# Altium integrated library Analog Devices Data Converters Digital-to-Analog Converters.IntLib: 2231 symbols (part 94 of 181)
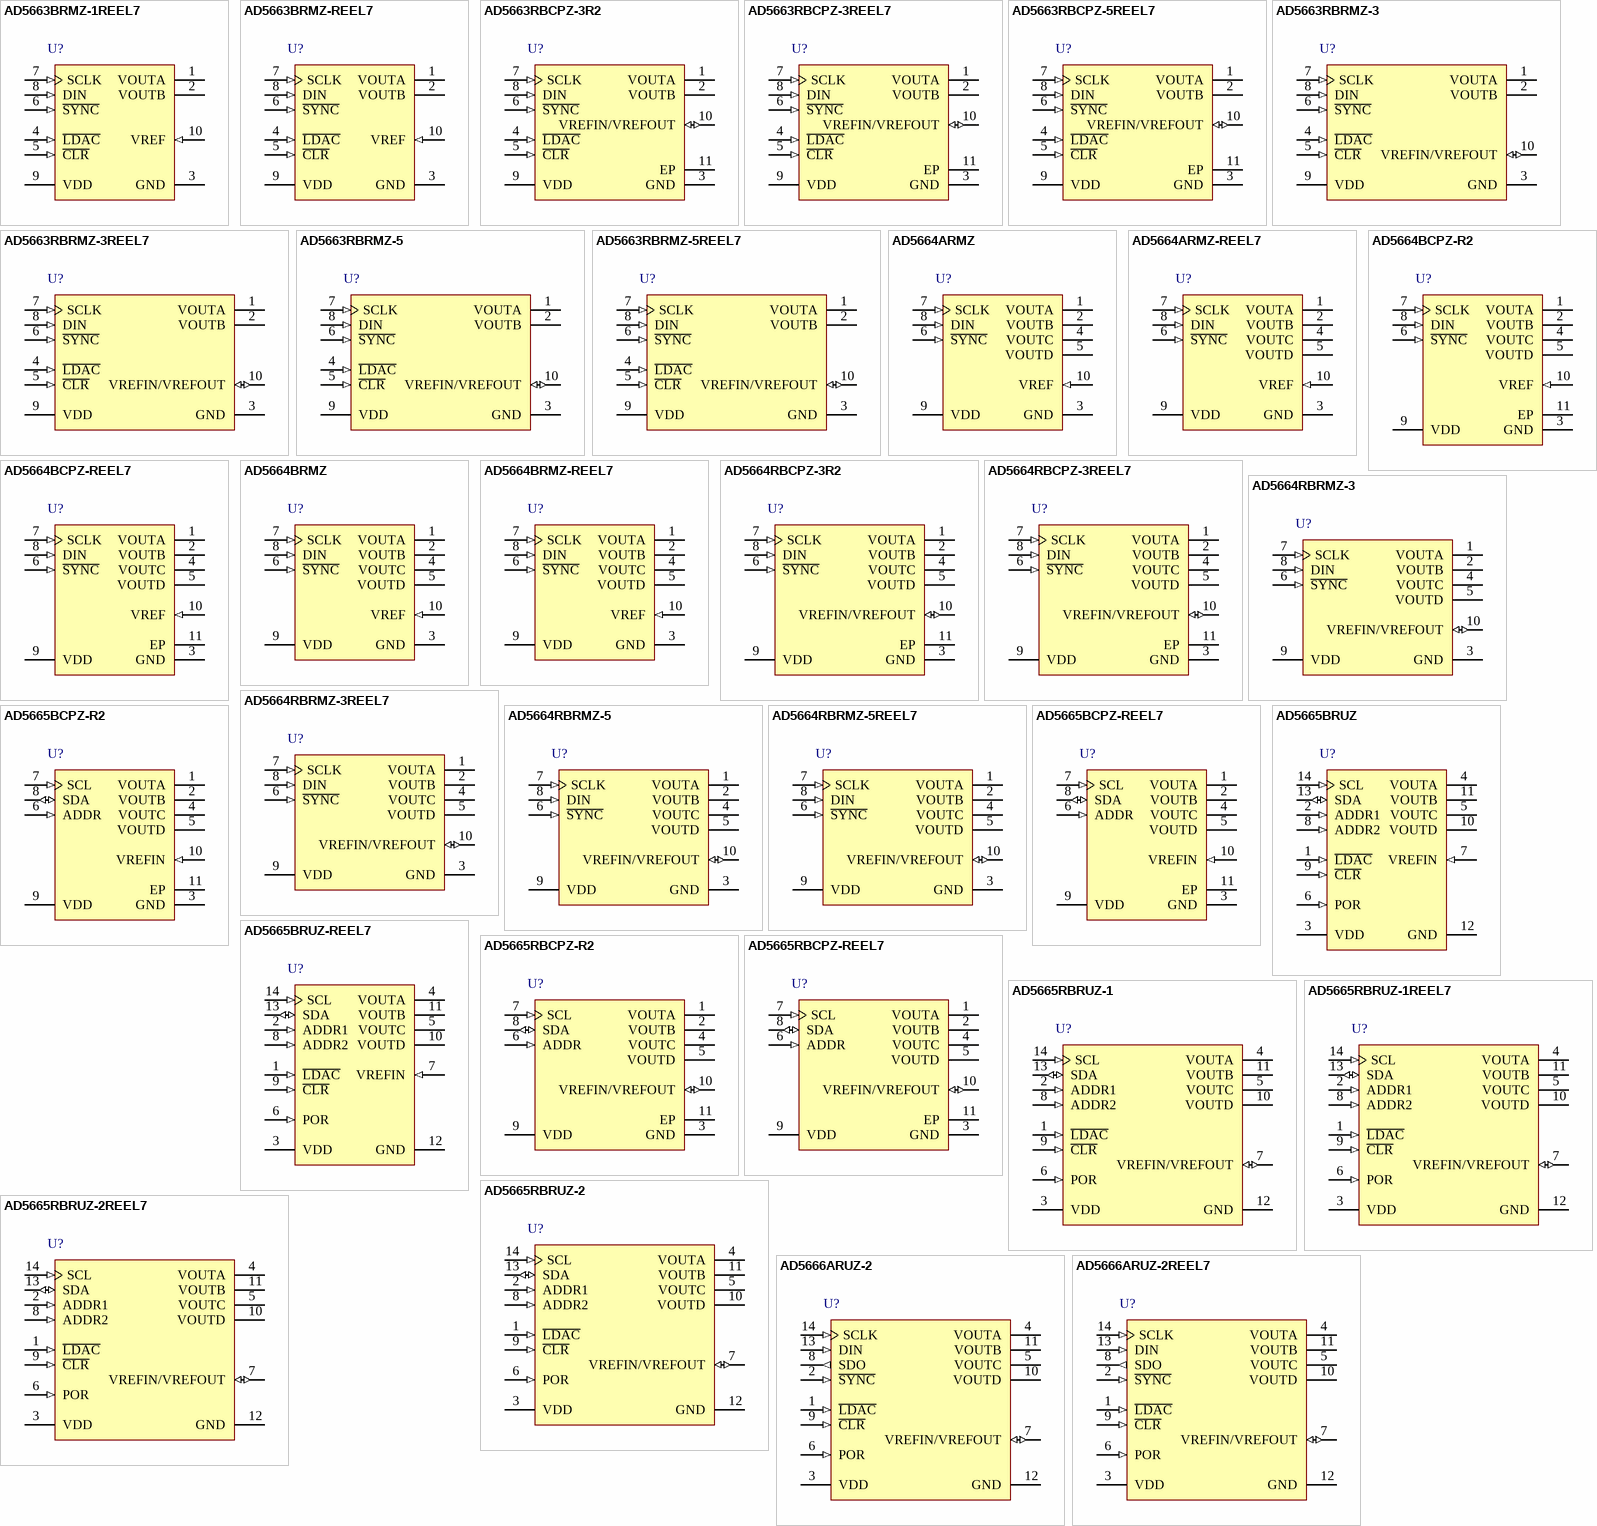
[diagram p207: symbols AD5663BRMZ-1REEL7 to AD5666ARUZ-2REEL7]

## AD5665RBRUZ-2
designator U?
Quad 16-Bit nanoDAC with I2C Interface and 5 ppm/degC On-Chip Reference, -40 to +105 degC, RU-14, Pb-Free, Tube; Generic Part Number: AD5665R; Manufacturer: Analog Devices; PartNumber: AD5665RBRUZ-2; # DAC Outputs: 4; Max V+: 5.5V; Op Pwr Diss: 9.5mW; Resolution (Bits): 16; Settling Time: 4µs; Single Supply: Yes; DatasheetVersion: Rev.B; PackageVersion: Aug-2002; PackageReference: RU-14; PackageDescription: 14-Lead Thin Shrink Small Outline Package [TSSOP]; Supplier 1: Digi-Key; Supplier Part Number 1: AD5665RBRUZ-2-ND; Supplier 2: Farnell; Supplier Part Number 2: 1498714; Supplier 3: Newark; Supplier Part Number 3: 15P0710; Supplier 4: Mouser; Supplier Part Number 4: 584-AD5665RBRUZ-2; Packing: Tube; RoHS: Y; Mounting Technology: Surface Mount; Code_JEDEC: MO-153-AB-1; ComponentLink1Description: Manufacturer URL; ComponentLink1URL: http://www.analog.com/en/index.html; ComponentLink2Description: Datasheet; ComponentLink2URL: http://www.analog.com/static/imported-files/data_sheets/AD5625R_5645R_5665R_5625_5665.pdf; ComponentLink3Description: Package Specification; ComponentLink3URL: http://www.analog.com/static/imported-files/packages/36057385283879153717235186773RU14.pdf; ComponentLink4Description: Product URL; ComponentLink4URL: http://www.analog.com/en/digital-to-analog-converters/da-converters/ad5665r/products/product.html
footprint RU-14_N (TSOP, 14-Leads, Body 5x4.4mm, Pitch 0.65mm, IPC Medium Density)
footprint RU-14_L (TSOP, 14-Leads, Body 5x4.4mm, Pitch 0.65mm, IPC High Density)
footprint RU-14_M (TSOP, 14-Leads, Body 5x4.4mm, Pitch 0.65mm, IPC Low Density)
pins: 1 ~{LDAC} (in) "Pulsing this pin low allows any or all DAC registers to be updated if the input registers have new data. This allows simultaneous update of all DAC outputs. Alternatively, this pin can be tied permanently low.", 2 ADDR1 (in) "Three-State Address Input. Sets the two least significant bits (Bit A1, Bit A0) of the 7-bit slave address (see Table 9).", 3 VDD (power) "Power Supply Input. These parts can be operated from 2.7 V to 5.5 V, and the supply should be decoupled with a 10 uF capacitor in parallel with a 0.1 uF capacitor to GND.", 4 VOUTA (hiz) "Analog Output Voltage from DAC A. The output amplifier has rail-to-rail operation.", 5 VOUTC (hiz) "Analog Output Voltage from DAC C. The output amplifier has rail-to-rail operation.", 6 POR (in) "Power-On Reset Pin. Tying the POR pin to GND powers up the part to 0 V. Tying the POR pin to VDD powers up the part to midscale.", 7 VREFIN/VREFOUT (io) "The AD56x5R have a common pin for reference input and reference output. When using the internal reference, this is the reference output pin. When using an external reference, this is the reference input pin. The default for (See Datasheet)", 8 ADDR2 (in) "Three-State Address Input. Sets Bit A3 and Bit A2 of the 7-bit slave address (see Table 9).", 9 ~{CLR} (in) "Asynchronous Clear Input. The C\L\R\ input is falling-edge sensitive. While C\L\R\ is low, all LDAC pulses are ignored. When C\L\R\ is activated, zero scale is loaded to all input and DAC registers. This clears the output to (See Datasheet)", 10 VOUTD (hiz) "Analog Output Voltage from DAC D. The output amplifier has rail-to-rail operation.", 11 VOUTB (hiz) "Analog Output Voltage from DAC B. The output amplifier has rail-to-rail operation.", 12 GND (power) "Ground Reference Point for All Circuitry on the Part.", 13 SDA (io) "Serial Data Line. This is used in conjunction with the SCL line to clock data into or out of the 16-bit input register. It is a bidirectional, open-drain data line that should be pulled to the supply with an external pull-up (See Datasheet)", 14 SCL (in) "Serial Clock Line. This is used in conjunction with the SDA line to clock data into or out of the 16-bit input register."

## AD5665RBRUZ-2REEL7
designator U?
Quad 16-Bit nanoDAC with I2C Interface and 5 ppm/degC On-Chip Reference, -40 to +105 degC, RU-14, Pb-Free, Reel; Generic Part Number: AD5665R; Manufacturer: Analog Devices; PartNumber: AD5665RBRUZ-2REEL7; # DAC Outputs: 4; Max V+: 5.5V; Op Pwr Diss: 9.5mW; Resolution (Bits): 16; Settling Time: 4µs; Single Supply: Yes; DatasheetVersion: Rev.B; PackageVersion: Aug-2002; PackageReference: RU-14; PackageDescription: 14-Lead Thin Shrink Small Outline Package [TSSOP]; Supplier 1: Digi-Key; Supplier Part Number 1: AD5665RBRUZ-2REEL7-ND; Supplier 2: Mouser; Supplier Part Number 2: 584-AD5665RBRUZ2R7; Packing: Reel; RoHS: Y; Mounting Technology: Surface Mount; Code_JEDEC: MO-153-AB-1; ComponentLink1Description: Manufacturer URL; ComponentLink1URL: http://www.analog.com/en/index.html; ComponentLink2Description: Datasheet; ComponentLink2URL: http://www.analog.com/static/imported-files/data_sheets/AD5625R_5645R_5665R_5625_5665.pdf; ComponentLink3Description: Package Specification; ComponentLink3URL: http://www.analog.com/static/imported-files/packages/36057385283879153717235186773RU14.pdf; ComponentLink4Description: Product URL; ComponentLink4URL: http://www.analog.com/en/digital-to-analog-converters/da-converters/ad5665r/products/product.html
footprint RU-14_N (TSOP, 14-Leads, Body 5x4.4mm, Pitch 0.65mm, IPC Medium Density)
footprint RU-14_L (TSOP, 14-Leads, Body 5x4.4mm, Pitch 0.65mm, IPC High Density)
footprint RU-14_M (TSOP, 14-Leads, Body 5x4.4mm, Pitch 0.65mm, IPC Low Density)
pins: 1 ~{LDAC} (in) "Pulsing this pin low allows any or all DAC registers to be updated if the input registers have new data. This allows simultaneous update of all DAC outputs. Alternatively, this pin can be tied permanently low.", 2 ADDR1 (in) "Three-State Address Input. Sets the two least significant bits (Bit A1, Bit A0) of the 7-bit slave address (see Table 9).", 3 VDD (power) "Power Supply Input. These parts can be operated from 2.7 V to 5.5 V, and the supply should be decoupled with a 10 uF capacitor in parallel with a 0.1 uF capacitor to GND.", 4 VOUTA (hiz) "Analog Output Voltage from DAC A. The output amplifier has rail-to-rail operation.", 5 VOUTC (hiz) "Analog Output Voltage from DAC C. The output amplifier has rail-to-rail operation.", 6 POR (in) "Power-On Reset Pin. Tying the POR pin to GND powers up the part to 0 V. Tying the POR pin to VDD powers up the part to midscale.", 7 VREFIN/VREFOUT (io) "The AD56x5R have a common pin for reference input and reference output. When using the internal reference, this is the reference output pin. When using an external reference, this is the reference input pin. The default for (See Datasheet)", 8 ADDR2 (in) "Three-State Address Input. Sets Bit A3 and Bit A2 of the 7-bit slave address (see Table 9).", 9 ~{CLR} (in) "Asynchronous Clear Input. The C\L\R\ input is falling-edge sensitive. While C\L\R\ is low, all LDAC pulses are ignored. When C\L\R\ is activated, zero scale is loaded to all input and DAC registers. This clears the output to (See Datasheet)", 10 VOUTD (hiz) "Analog Output Voltage from DAC D. The output amplifier has rail-to-rail operation.", 11 VOUTB (hiz) "Analog Output Voltage from DAC B. The output amplifier has rail-to-rail operation.", 12 GND (power) "Ground Reference Point for All Circuitry on the Part.", 13 SDA (io) "Serial Data Line. This is used in conjunction with the SCL line to clock data into or out of the 16-bit input register. It is a bidirectional, open-drain data line that should be pulled to the supply with an external pull-up (See Datasheet)", 14 SCL (in) "Serial Clock Line. This is used in conjunction with the SDA line to clock data into or out of the 16-bit input register."

## AD5666ARUZ-2
designator U?
Quad 16-Bit Digital-to-Analog Converter with 5 ppm/degC On-Chip Reference, -40 to +105 degC, RU-14, Pb-Free, Tube; Generic Part Number: AD5666; Manufacturer: Analog Devices; PartNumber: AD5666ARUZ-2; # DAC Outputs: 4; Max V+: 5.5V; Op Pwr Diss: 12.5mW; Resolution (Bits): 16; Settling Time: 6µs; Single Supply: Yes; DatasheetVersion: Rev.D; PackageVersion: Aug-2002; PackageReference: RU-14; PackageDescription: 14-Lead Thin Shrink Small Outline Package [TSSOP]; Supplier 1: Digi-Key; Supplier Part Number 1: AD5666ARUZ-2-ND; Supplier 2: Farnell; Supplier Part Number 2: 2312718; Supplier 3: Newark; Supplier Part Number 3: 12M8663; Supplier 4: Mouser; Supplier Part Number 4: 584-AD5666ARUZ-2; Packing: Tube; RoHS: Y; Mounting Technology: Surface Mount; Code_JEDEC: MO-153-AB-1; ComponentLink1Description: Manufacturer URL; ComponentLink1URL: http://www.analog.com/en/index.html; ComponentLink2Description: Datasheet; ComponentLink2URL: http://www.analog.com/static/imported-files/data_sheets/AD5666.pdf; ComponentLink3Description: Package Specification; ComponentLink3URL: http://www.analog.com/static/imported-files/packages/36057385283879153717235186773RU14.pdf; ComponentLink4Description: Product URL; ComponentLink4URL: http://www.analog.com/en/digital-to-analog-converters/da-converters/ad5666/products/product.html
footprint RU-14_N (TSOP, 14-Leads, Body 5x4.4mm, Pitch 0.65mm, IPC Medium Density)
footprint RU-14_L (TSOP, 14-Leads, Body 5x4.4mm, Pitch 0.65mm, IPC High Density)
footprint RU-14_M (TSOP, 14-Leads, Body 5x4.4mm, Pitch 0.65mm, IPC Low Density)
pins: 1 ~{LDAC} (in) "Pulsing this pin low allows any or all DAC registers to be updated if the input registers have new data. This allows all DAC outputs to simultaneously update. Alternatively, this pin can be tied permanently low.", 2 ~{SYNC} (in) "Active Low Control Input. This is the frame synchronization signal for the input data. When S\Y\N\C\ goes low, it powers on the SCLK and DIN buffers and enables the input shift register. Data is transferred in on the falling (See Datasheet)", 3 VDD (power) "Power Supply Input. These parts can be operated from 2.7 V to 5.5 V, and the supply should be decoupled with a 10 uF capacitor in parallel with a 0.1 uF capacitor to GND.", 4 VOUTA (hiz) "Analog Output Voltage from DAC A. The output amplifier has rail-to-rail operation.", 5 VOUTC (hiz) "Analog Output Voltage from DAC C. The output amplifier has rail-to-rail operation.", 6 POR (in) "Power-on Reset Pin. Tying this pin to GND powers up the part to 0 V. Tying this pin to VDD powers up the part to midscale.", 7 VREFIN/VREFOUT (io) "The AD5666 has a common pin for reference input and reference output. When using the internal reference, this is the reference output pin. When using an external reference, this is the reference input pin. The default for (See Datasheet)", 8 SDO (out) "Serial Data Output. Can be used for daisy-chaining a number of these devices together or for reading back the data in the shift register for diagnostic purposes. The serial data is transferred on the rising edge of SCLK and (See Datasheet)", 9 ~{CLR} (in) "Asynchronous Clear Input. The C\L\R\ input is falling edge sensitive. When C\L\R\ is low, all L\D\A\C\ pulses are ignored. When C\L\R\ is activated, the input register and the DAC register are updated with the data contained (See Datasheet)", 10 VOUTD (hiz) "Analog Output Voltage from DAC D. The output amplifier has rail-to-rail operation.", 11 VOUTB (hiz) "Analog Output Voltage from DAC B. The output amplifier has rail-to-rail operation.", 12 GND (power) "Ground Reference Point for All Circuitry on the Part.", 13 DIN (in) "Serial Data Input. This device has a 32-bit shift register. Data is clocked into the register on the falling edge of the serial clock input.", 14 SCLK (in) "Serial Clock Input. Data is clocked into the input shift register on the falling edge of the serial clock input. Data can be transferred at rates of up to 50 MHz."

## AD5666ARUZ-2REEL7
designator U?
Quad 16-Bit Digital-to-Analog Converter with 5 ppm/degC On-Chip Reference, -40 to +105 degC, RU-14, Pb-Free, Reel; Generic Part Number: AD5666; Manufacturer: Analog Devices; PartNumber: AD5666ARUZ-2REEL7; # DAC Outputs: 4; Max V+: 5.5V; Op Pwr Diss: 12.5mW; Resolution (Bits): 16; Settling Time: 6µs; Single Supply: Yes; DatasheetVersion: Rev.D; PackageVersion: Aug-2002; PackageReference: RU-14; PackageDescription: 14-Lead Thin Shrink Small Outline Package [TSSOP]; Supplier 1: Digi-Key; Supplier Part Number 1: AD5666ARUZ-2REEL7-ND; Supplier 2: Mouser; Supplier Part Number 2: 584-AD5666ARUZ-2R7; Packing: Reel; RoHS: Y; Mounting Technology: Surface Mount; Code_JEDEC: MO-153-AB-1; ComponentLink1Description: Manufacturer URL; ComponentLink1URL: http://www.analog.com/en/index.html; ComponentLink2Description: Datasheet; ComponentLink2URL: http://www.analog.com/static/imported-files/data_sheets/AD5666.pdf; ComponentLink3Description: Package Specification; ComponentLink3URL: http://www.analog.com/static/imported-files/packages/36057385283879153717235186773RU14.pdf; ComponentLink4Description: Product URL; ComponentLink4URL: http://www.analog.com/en/digital-to-analog-converters/da-converters/ad5666/products/product.html
footprint RU-14_N (TSOP, 14-Leads, Body 5x4.4mm, Pitch 0.65mm, IPC Medium Density)
footprint RU-14_L (TSOP, 14-Leads, Body 5x4.4mm, Pitch 0.65mm, IPC High Density)
footprint RU-14_M (TSOP, 14-Leads, Body 5x4.4mm, Pitch 0.65mm, IPC Low Density)
pins: 1 ~{LDAC} (in) "Pulsing this pin low allows any or all DAC registers to be updated if the input registers have new data. This allows all DAC outputs to simultaneously update. Alternatively, this pin can be tied permanently low.", 2 ~{SYNC} (in) "Active Low Control Input. This is the frame synchronization signal for the input data. When S\Y\N\C\ goes low, it powers on the SCLK and DIN buffers and enables the input shift register. Data is transferred in on the falling (See Datasheet)", 3 VDD (power) "Power Supply Input. These parts can be operated from 2.7 V to 5.5 V, and the supply should be decoupled with a 10 uF capacitor in parallel with a 0.1 uF capacitor to GND.", 4 VOUTA (hiz) "Analog Output Voltage from DAC A. The output amplifier has rail-to-rail operation.", 5 VOUTC (hiz) "Analog Output Voltage from DAC C. The output amplifier has rail-to-rail operation.", 6 POR (in) "Power-on Reset Pin. Tying this pin to GND powers up the part to 0 V. Tying this pin to VDD powers up the part to midscale.", 7 VREFIN/VREFOUT (io) "The AD5666 has a common pin for reference input and reference output. When using the internal reference, this is the reference output pin. When using an external reference, this is the reference input pin. The default for (See Datasheet)", 8 SDO (out) "Serial Data Output. Can be used for daisy-chaining a number of these devices together or for reading back the data in the shift register for diagnostic purposes. The serial data is transferred on the rising edge of SCLK and (See Datasheet)", 9 ~{CLR} (in) "Asynchronous Clear Input. The C\L\R\ input is falling edge sensitive. When C\L\R\ is low, all L\D\A\C\ pulses are ignored. When C\L\R\ is activated, the input register and the DAC register are updated with the data contained (See Datasheet)", 10 VOUTD (hiz) "Analog Output Voltage from DAC D. The output amplifier has rail-to-rail operation.", 11 VOUTB (hiz) "Analog Output Voltage from DAC B. The output amplifier has rail-to-rail operation.", 12 GND (power) "Ground Reference Point for All Circuitry on the Part.", 13 DIN (in) "Serial Data Input. This device has a 32-bit shift register. Data is clocked into the register on the falling edge of the serial clock input.", 14 SCLK (in) "Serial Clock Input. Data is clocked into the input shift register on the falling edge of the serial clock input. Data can be transferred at rates of up to 50 MHz."

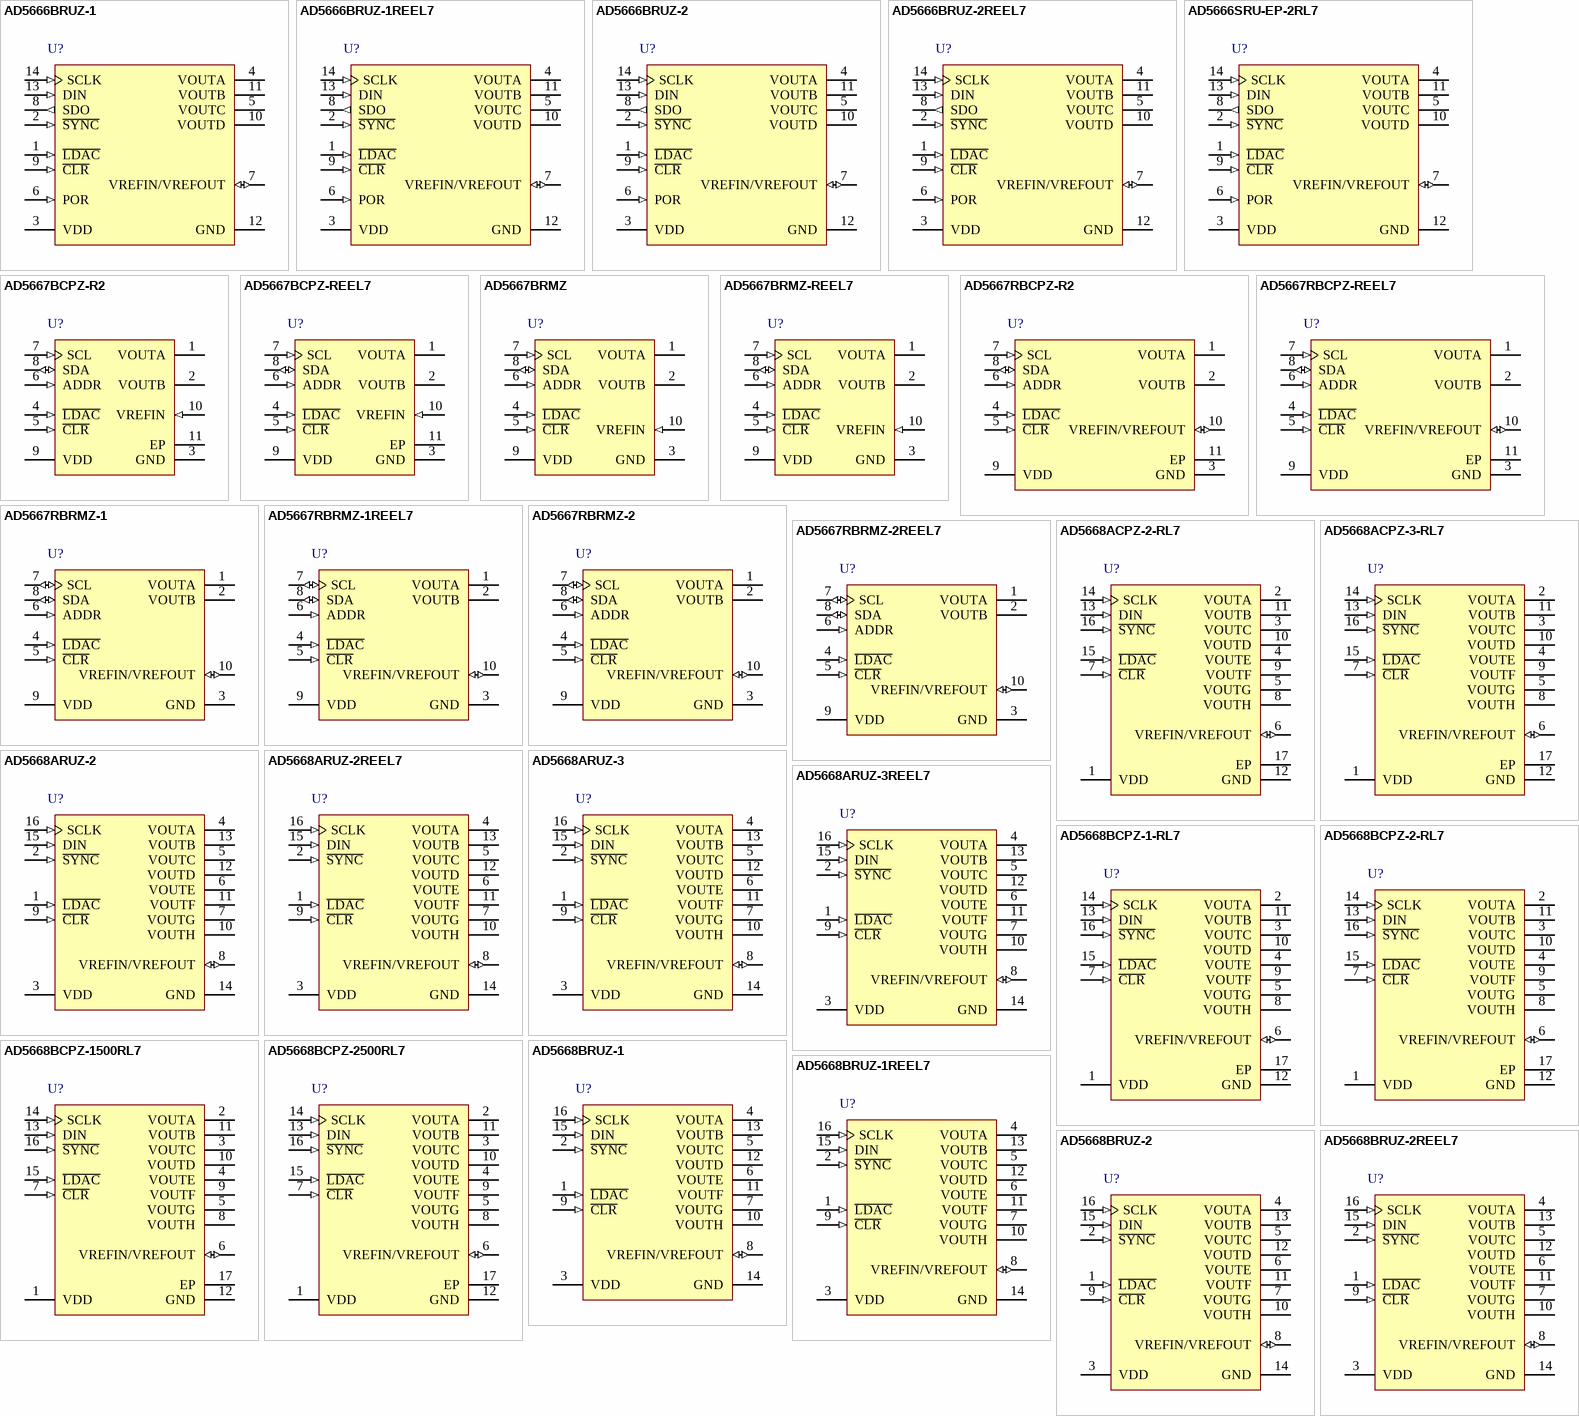
[diagram p50: symbols AD5666BRUZ-1 to AD5668BRUZ-2REEL7]

## AD5666BRUZ-1
designator U?
Quad 16-Bit Digital-to-Analog Converter with 5 ppm/degC On-Chip Reference, -40 to +105 degC, RU-14, Pb-Free, Tube; Generic Part Number: AD5666; Manufacturer: Analog Devices; PartNumber: AD5666BRUZ-1; # DAC Outputs: 4; Max V+: 5.5V; Op Pwr Diss: 12.5mW; Resolution (Bits): 16; Settling Time: 6µs; Single Supply: Yes; DatasheetVersion: Rev.D; PackageVersion: Aug-2002; PackageReference: RU-14; PackageDescription: 14-Lead Thin Shrink Small Outline Package [TSSOP]; Supplier 1: Digi-Key; Supplier Part Number 1: AD5666BRUZ-1-ND; Supplier 2: Farnell; Supplier Part Number 2: 1438923; Supplier 3: Newark; Supplier Part Number 3: 15P0711; Supplier 4: Mouser; Supplier Part Number 4: 584-AD5666BRUZ-1; Packing: Tube; RoHS: Y; Mounting Technology: Surface Mount; Code_JEDEC: MO-153-AB-1; ComponentLink1Description: Manufacturer URL; ComponentLink1URL: http://www.analog.com/en/index.html; ComponentLink2Description: Datasheet; ComponentLink2URL: http://www.analog.com/static/imported-files/data_sheets/AD5666.pdf; ComponentLink3Description: Package Specification; ComponentLink3URL: http://www.analog.com/static/imported-files/packages/36057385283879153717235186773RU14.pdf; ComponentLink4Description: Product URL; ComponentLink4URL: http://www.analog.com/en/digital-to-analog-converters/da-converters/ad5666/products/product.html
footprint RU-14_N (TSOP, 14-Leads, Body 5x4.4mm, Pitch 0.65mm, IPC Medium Density)
footprint RU-14_L (TSOP, 14-Leads, Body 5x4.4mm, Pitch 0.65mm, IPC High Density)
footprint RU-14_M (TSOP, 14-Leads, Body 5x4.4mm, Pitch 0.65mm, IPC Low Density)
pins: 1 ~{LDAC} (in) "Pulsing this pin low allows any or all DAC registers to be updated if the input registers have new data. This allows all DAC outputs to simultaneously update. Alternatively, this pin can be tied permanently low.", 2 ~{SYNC} (in) "Active Low Control Input. This is the frame synchronization signal for the input data. When S\Y\N\C\ goes low, it powers on the SCLK and DIN buffers and enables the input shift register. Data is transferred in on the falling (See Datasheet)", 3 VDD (power) "Power Supply Input. These parts can be operated from 2.7 V to 5.5 V, and the supply should be decoupled with a 10 uF capacitor in parallel with a 0.1 uF capacitor to GND.", 4 VOUTA (hiz) "Analog Output Voltage from DAC A. The output amplifier has rail-to-rail operation.", 5 VOUTC (hiz) "Analog Output Voltage from DAC C. The output amplifier has rail-to-rail operation.", 6 POR (in) "Power-on Reset Pin. Tying this pin to GND powers up the part to 0 V. Tying this pin to VDD powers up the part to midscale.", 7 VREFIN/VREFOUT (io) "The AD5666 has a common pin for reference input and reference output. When using the internal reference, this is the reference output pin. When using an external reference, this is the reference input pin. The default for (See Datasheet)", 8 SDO (out) "Serial Data Output. Can be used for daisy-chaining a number of these devices together or for reading back the data in the shift register for diagnostic purposes. The serial data is transferred on the rising edge of SCLK and (See Datasheet)", 9 ~{CLR} (in) "Asynchronous Clear Input. The C\L\R\ input is falling edge sensitive. When C\L\R\ is low, all L\D\A\C\ pulses are ignored. When C\L\R\ is activated, the input register and the DAC register are updated with the data contained (See Datasheet)", 10 VOUTD (hiz) "Analog Output Voltage from DAC D. The output amplifier has rail-to-rail operation.", 11 VOUTB (hiz) "Analog Output Voltage from DAC B. The output amplifier has rail-to-rail operation.", 12 GND (power) "Ground Reference Point for All Circuitry on the Part.", 13 DIN (in) "Serial Data Input. This device has a 32-bit shift register. Data is clocked into the register on the falling edge of the serial clock input.", 14 SCLK (in) "Serial Clock Input. Data is clocked into the input shift register on the falling edge of the serial clock input. Data can be transferred at rates of up to 50 MHz."

## AD5666BRUZ-1REEL7
designator U?
Quad 16-Bit Digital-to-Analog Converter with 5 ppm/degC On-Chip Reference, -40 to +105 degC, RU-14, Pb-Free, Reel; Generic Part Number: AD5666; Manufacturer: Analog Devices; PartNumber: AD5666BRUZ-1REEL7; # DAC Outputs: 4; Max V+: 5.5V; Op Pwr Diss: 12.5mW; Resolution (Bits): 16; Settling Time: 6µs; Single Supply: Yes; DatasheetVersion: Rev.D; PackageVersion: Aug-2002; PackageReference: RU-14; PackageDescription: 14-Lead Thin Shrink Small Outline Package [TSSOP]; Supplier 1: Digi-Key; Supplier Part Number 1: AD5666BRUZ-1REEL7-ND; Supplier 2: Mouser; Supplier Part Number 2: 584-AD5666BRUZ-1R7; Packing: Reel; RoHS: Y; Mounting Technology: Surface Mount; Code_JEDEC: MO-153-AB-1; ComponentLink1Description: Manufacturer URL; ComponentLink1URL: http://www.analog.com/en/index.html; ComponentLink2Description: Datasheet; ComponentLink2URL: http://www.analog.com/static/imported-files/data_sheets/AD5666.pdf; ComponentLink3Description: Package Specification; ComponentLink3URL: http://www.analog.com/static/imported-files/packages/36057385283879153717235186773RU14.pdf; ComponentLink4Description: Product URL; ComponentLink4URL: http://www.analog.com/en/digital-to-analog-converters/da-converters/ad5666/products/product.html
footprint RU-14_N (TSOP, 14-Leads, Body 5x4.4mm, Pitch 0.65mm, IPC Medium Density)
footprint RU-14_L (TSOP, 14-Leads, Body 5x4.4mm, Pitch 0.65mm, IPC High Density)
footprint RU-14_M (TSOP, 14-Leads, Body 5x4.4mm, Pitch 0.65mm, IPC Low Density)
pins: 1 ~{LDAC} (in) "Pulsing this pin low allows any or all DAC registers to be updated if the input registers have new data. This allows all DAC outputs to simultaneously update. Alternatively, this pin can be tied permanently low.", 2 ~{SYNC} (in) "Active Low Control Input. This is the frame synchronization signal for the input data. When S\Y\N\C\ goes low, it powers on the SCLK and DIN buffers and enables the input shift register. Data is transferred in on the falling (See Datasheet)", 3 VDD (power) "Power Supply Input. These parts can be operated from 2.7 V to 5.5 V, and the supply should be decoupled with a 10 uF capacitor in parallel with a 0.1 uF capacitor to GND.", 4 VOUTA (hiz) "Analog Output Voltage from DAC A. The output amplifier has rail-to-rail operation.", 5 VOUTC (hiz) "Analog Output Voltage from DAC C. The output amplifier has rail-to-rail operation.", 6 POR (in) "Power-on Reset Pin. Tying this pin to GND powers up the part to 0 V. Tying this pin to VDD powers up the part to midscale.", 7 VREFIN/VREFOUT (io) "The AD5666 has a common pin for reference input and reference output. When using the internal reference, this is the reference output pin. When using an external reference, this is the reference input pin. The default for (See Datasheet)", 8 SDO (out) "Serial Data Output. Can be used for daisy-chaining a number of these devices together or for reading back the data in the shift register for diagnostic purposes. The serial data is transferred on the rising edge of SCLK and (See Datasheet)", 9 ~{CLR} (in) "Asynchronous Clear Input. The C\L\R\ input is falling edge sensitive. When C\L\R\ is low, all L\D\A\C\ pulses are ignored. When C\L\R\ is activated, the input register and the DAC register are updated with the data contained (See Datasheet)", 10 VOUTD (hiz) "Analog Output Voltage from DAC D. The output amplifier has rail-to-rail operation.", 11 VOUTB (hiz) "Analog Output Voltage from DAC B. The output amplifier has rail-to-rail operation.", 12 GND (power) "Ground Reference Point for All Circuitry on the Part.", 13 DIN (in) "Serial Data Input. This device has a 32-bit shift register. Data is clocked into the register on the falling edge of the serial clock input.", 14 SCLK (in) "Serial Clock Input. Data is clocked into the input shift register on the falling edge of the serial clock input. Data can be transferred at rates of up to 50 MHz."

## AD5666BRUZ-2
designator U?
Quad 16-Bit Digital-to-Analog Converter with 5 ppm/degC On-Chip Reference, -40 to +105 degC, RU-14, Pb-Free, Tube; Generic Part Number: AD5666; Manufacturer: Analog Devices; PartNumber: AD5666BRUZ-2; # DAC Outputs: 4; Max V+: 5.5V; Op Pwr Diss: 12.5mW; Resolution (Bits): 16; Settling Time: 6µs; Single Supply: Yes; DatasheetVersion: Rev.D; PackageVersion: Aug-2002; PackageReference: RU-14; PackageDescription: 14-Lead Thin Shrink Small Outline Package [TSSOP]; Supplier 1: Digi-Key; Supplier Part Number 1: AD5666BRUZ-2-ND; Supplier 2: Farnell; Supplier Part Number 2: 1438924; Supplier 3: Newark; Supplier Part Number 3: 12M8666; Supplier 4: Mouser; Supplier Part Number 4: 584-AD5666BRUZ-2; Packing: Tube; RoHS: Y; Mounting Technology: Surface Mount; Code_JEDEC: MO-153-AB-1; ComponentLink1Description: Manufacturer URL; ComponentLink1URL: http://www.analog.com/en/index.html; ComponentLink2Description: Datasheet; ComponentLink2URL: http://www.analog.com/static/imported-files/data_sheets/AD5666.pdf; ComponentLink3Description: Package Specification; ComponentLink3URL: http://www.analog.com/static/imported-files/packages/36057385283879153717235186773RU14.pdf; ComponentLink4Description: Product URL; ComponentLink4URL: http://www.analog.com/en/digital-to-analog-converters/da-converters/ad5666/products/product.html
footprint RU-14_N (TSOP, 14-Leads, Body 5x4.4mm, Pitch 0.65mm, IPC Medium Density)
footprint RU-14_L (TSOP, 14-Leads, Body 5x4.4mm, Pitch 0.65mm, IPC High Density)
footprint RU-14_M (TSOP, 14-Leads, Body 5x4.4mm, Pitch 0.65mm, IPC Low Density)
pins: 1 ~{LDAC} (in) "Pulsing this pin low allows any or all DAC registers to be updated if the input registers have new data. This allows all DAC outputs to simultaneously update. Alternatively, this pin can be tied permanently low.", 2 ~{SYNC} (in) "Active Low Control Input. This is the frame synchronization signal for the input data. When S\Y\N\C\ goes low, it powers on the SCLK and DIN buffers and enables the input shift register. Data is transferred in on the falling (See Datasheet)", 3 VDD (power) "Power Supply Input. These parts can be operated from 2.7 V to 5.5 V, and the supply should be decoupled with a 10 uF capacitor in parallel with a 0.1 uF capacitor to GND.", 4 VOUTA (hiz) "Analog Output Voltage from DAC A. The output amplifier has rail-to-rail operation.", 5 VOUTC (hiz) "Analog Output Voltage from DAC C. The output amplifier has rail-to-rail operation.", 6 POR (in) "Power-on Reset Pin. Tying this pin to GND powers up the part to 0 V. Tying this pin to VDD powers up the part to midscale.", 7 VREFIN/VREFOUT (io) "The AD5666 has a common pin for reference input and reference output. When using the internal reference, this is the reference output pin. When using an external reference, this is the reference input pin. The default for (See Datasheet)", 8 SDO (out) "Serial Data Output. Can be used for daisy-chaining a number of these devices together or for reading back the data in the shift register for diagnostic purposes. The serial data is transferred on the rising edge of SCLK and (See Datasheet)", 9 ~{CLR} (in) "Asynchronous Clear Input. The C\L\R\ input is falling edge sensitive. When C\L\R\ is low, all L\D\A\C\ pulses are ignored. When C\L\R\ is activated, the input register and the DAC register are updated with the data contained (See Datasheet)", 10 VOUTD (hiz) "Analog Output Voltage from DAC D. The output amplifier has rail-to-rail operation.", 11 VOUTB (hiz) "Analog Output Voltage from DAC B. The output amplifier has rail-to-rail operation.", 12 GND (power) "Ground Reference Point for All Circuitry on the Part.", 13 DIN (in) "Serial Data Input. This device has a 32-bit shift register. Data is clocked into the register on the falling edge of the serial clock input.", 14 SCLK (in) "Serial Clock Input. Data is clocked into the input shift register on the falling edge of the serial clock input. Data can be transferred at rates of up to 50 MHz."

## AD5666BRUZ-2REEL7
designator U?
Quad 16-Bit Digital-to-Analog Converter with 5 ppm/degC On-Chip Reference, -40 to +105 degC, RU-14, Pb-Free, Reel; Generic Part Number: AD5666; Manufacturer: Analog Devices; PartNumber: AD5666BRUZ-2REEL7; # DAC Outputs: 4; Max V+: 5.5V; Op Pwr Diss: 12.5mW; Resolution (Bits): 16; Settling Time: 6µs; Single Supply: Yes; DatasheetVersion: Rev.D; PackageVersion: Aug-2002; PackageReference: RU-14; PackageDescription: 14-Lead Thin Shrink Small Outline Package [TSSOP]; Supplier 1: Digi-Key; Supplier Part Number 1: AD5666BRUZ-2REEL7-ND; Supplier 2: Mouser; Supplier Part Number 2: 584-AD5666BRUZ-2R7; Packing: Reel; RoHS: Y; Mounting Technology: Surface Mount; Code_JEDEC: MO-153-AB-1; ComponentLink1Description: Manufacturer URL; ComponentLink1URL: http://www.analog.com/en/index.html; ComponentLink2Description: Datasheet; ComponentLink2URL: http://www.analog.com/static/imported-files/data_sheets/AD5666.pdf; ComponentLink3Description: Package Specification; ComponentLink3URL: http://www.analog.com/static/imported-files/packages/36057385283879153717235186773RU14.pdf; ComponentLink4Description: Product URL; ComponentLink4URL: http://www.analog.com/en/digital-to-analog-converters/da-converters/ad5666/products/product.html
footprint RU-14_N (TSOP, 14-Leads, Body 5x4.4mm, Pitch 0.65mm, IPC Medium Density)
footprint RU-14_L (TSOP, 14-Leads, Body 5x4.4mm, Pitch 0.65mm, IPC High Density)
footprint RU-14_M (TSOP, 14-Leads, Body 5x4.4mm, Pitch 0.65mm, IPC Low Density)
pins: 1 ~{LDAC} (in) "Pulsing this pin low allows any or all DAC registers to be updated if the input registers have new data. This allows all DAC outputs to simultaneously update. Alternatively, this pin can be tied permanently low.", 2 ~{SYNC} (in) "Active Low Control Input. This is the frame synchronization signal for the input data. When S\Y\N\C\ goes low, it powers on the SCLK and DIN buffers and enables the input shift register. Data is transferred in on the falling (See Datasheet)", 3 VDD (power) "Power Supply Input. These parts can be operated from 2.7 V to 5.5 V, and the supply should be decoupled with a 10 uF capacitor in parallel with a 0.1 uF capacitor to GND.", 4 VOUTA (hiz) "Analog Output Voltage from DAC A. The output amplifier has rail-to-rail operation.", 5 VOUTC (hiz) "Analog Output Voltage from DAC C. The output amplifier has rail-to-rail operation.", 6 POR (in) "Power-on Reset Pin. Tying this pin to GND powers up the part to 0 V. Tying this pin to VDD powers up the part to midscale.", 7 VREFIN/VREFOUT (io) "The AD5666 has a common pin for reference input and reference output. When using the internal reference, this is the reference output pin. When using an external reference, this is the reference input pin. The default for (See Datasheet)", 8 SDO (out) "Serial Data Output. Can be used for daisy-chaining a number of these devices together or for reading back the data in the shift register for diagnostic purposes. The serial data is transferred on the rising edge of SCLK and (See Datasheet)", 9 ~{CLR} (in) "Asynchronous Clear Input. The C\L\R\ input is falling edge sensitive. When C\L\R\ is low, all L\D\A\C\ pulses are ignored. When C\L\R\ is activated, the input register and the DAC register are updated with the data contained (See Datasheet)", 10 VOUTD (hiz) "Analog Output Voltage from DAC D. The output amplifier has rail-to-rail operation.", 11 VOUTB (hiz) "Analog Output Voltage from DAC B. The output amplifier has rail-to-rail operation.", 12 GND (power) "Ground Reference Point for All Circuitry on the Part.", 13 DIN (in) "Serial Data Input. This device has a 32-bit shift register. Data is clocked into the register on the falling edge of the serial clock input.", 14 SCLK (in) "Serial Clock Input. Data is clocked into the input shift register on the falling edge of the serial clock input. Data can be transferred at rates of up to 50 MHz."

## AD5666SRU-EP-2RL7
designator U?
Quad 16-Bit Digital-to-Analog Converter with 5 ppm/degC On-Chip Reference, -40 to +105 degC, RU-14, Reel; Generic Part Number: AD5666; Manufacturer: Analog Devices; PartNumber: AD5666SRU-EP-2RL7; # DAC Outputs: 4; Max V+: 5.5V; Op Pwr Diss: 12.5mW; Resolution (Bits): 16; Settling Time: 6µs; Single Supply: Yes; DatasheetVersion: Rev.D; PackageVersion: Aug-2002; PackageReference: RU-14; PackageDescription: 14-Lead Thin Shrink Small Outline Package [TSSOP]; Supplier 1: Digi-Key; Supplier Part Number 1: AD5666SRU-EP-2RL7TR-ND; Supplier 2: Digi-Key; Supplier Part Number 2: AD5666SRU-EP-2RL7CT-ND; Supplier 3: Digi-Key; Supplier Part Number 3: AD5666SRU-EP-2RL7DKR-ND; Supplier 4: Mouser; Supplier Part Number 4: 584-AD5666SRU-EP-2R7; Packing: Reel; RoHS: N; Mounting Technology: Surface Mount; Code_JEDEC: MO-153-AB-1; ComponentLink1Description: Manufacturer URL; ComponentLink1URL: http://www.analog.com/en/index.html; ComponentLink2Description: Datasheet; ComponentLink2URL: http://www.analog.com/static/imported-files/data_sheets/AD5666.pdf; ComponentLink3Description: Package Specification; ComponentLink3URL: http://www.analog.com/static/imported-files/packages/36057385283879153717235186773RU14.pdf; ComponentLink4Description: Product URL; ComponentLink4URL: http://www.analog.com/en/digital-to-analog-converters/da-converters/ad5666/products/product.html
footprint RU-14_N (TSOP, 14-Leads, Body 5x4.4mm, Pitch 0.65mm, IPC Medium Density)
footprint RU-14_L (TSOP, 14-Leads, Body 5x4.4mm, Pitch 0.65mm, IPC High Density)
footprint RU-14_M (TSOP, 14-Leads, Body 5x4.4mm, Pitch 0.65mm, IPC Low Density)
pins: 1 ~{LDAC} (in) "Pulsing this pin low allows any or all DAC registers to be updated if the input registers have new data. This allows all DAC outputs to simultaneously update. Alternatively, this pin can be tied permanently low.", 2 ~{SYNC} (in) "Active Low Control Input. This is the frame synchronization signal for the input data. When S\Y\N\C\ goes low, it powers on the SCLK and DIN buffers and enables the input shift register. Data is transferred in on the falling (See Datasheet)", 3 VDD (power) "Power Supply Input. These parts can be operated from 2.7 V to 5.5 V, and the supply should be decoupled with a 10 uF capacitor in parallel with a 0.1 uF capacitor to GND.", 4 VOUTA (hiz) "Analog Output Voltage from DAC A. The output amplifier has rail-to-rail operation.", 5 VOUTC (hiz) "Analog Output Voltage from DAC C. The output amplifier has rail-to-rail operation.", 6 POR (in) "Power-on Reset Pin. Tying this pin to GND powers up the part to 0 V. Tying this pin to VDD powers up the part to midscale.", 7 VREFIN/VREFOUT (io) "The AD5666 has a common pin for reference input and reference output. When using the internal reference, this is the reference output pin. When using an external reference, this is the reference input pin. The default for (See Datasheet)", 8 SDO (out) "Serial Data Output. Can be used for daisy-chaining a number of these devices together or for reading back the data in the shift register for diagnostic purposes. The serial data is transferred on the rising edge of SCLK and (See Datasheet)", 9 ~{CLR} (in) "Asynchronous Clear Input. The C\L\R\ input is falling edge sensitive. When C\L\R\ is low, all L\D\A\C\ pulses are ignored. When C\L\R\ is activated, the input register and the DAC register are updated with the data contained (See Datasheet)", 10 VOUTD (hiz) "Analog Output Voltage from DAC D. The output amplifier has rail-to-rail operation.", 11 VOUTB (hiz) "Analog Output Voltage from DAC B. The output amplifier has rail-to-rail operation.", 12 GND (power) "Ground Reference Point for All Circuitry on the Part.", 13 DIN (in) "Serial Data Input. This device has a 32-bit shift register. Data is clocked into the register on the falling edge of the serial clock input.", 14 SCLK (in) "Serial Clock Input. Data is clocked into the input shift register on the falling edge of the serial clock input. Data can be transferred at rates of up to 50 MHz."

## AD5667BCPZ-R2
designator U?
Dual 16-Bit nanoDAC with 5 ppm/degC On-Chip Reference and I2C Interface, -40 to +105 degC, CP-10-9, Pb-Free, Reel; Generic Part Number: AD5667; Manufacturer: Analog Devices; PartNumber: AD5667BCPZ-R2; # DAC Outputs: 2; Max V+: 5.5V; Op Pwr Diss: 5.75mW; Resolution (Bits): 16; Settling Time: 4µs; Single Supply: Yes; DatasheetVersion: Rev.0; PackageVersion: 02-27-2012-B; PackageReference: CP-10-9; PackageDescription: 10-Lead Lead Frame Chip Scale Package [LFCSP_WD] 3 x 3 mm Body, Very Very Thin, Dual Lead; Supplier 1: Digi-Key; Supplier Part Number 1: AD5667BCPZ-R2TR-ND; Supplier 2: Digi-Key; Supplier Part Number 2: AD5667BCPZ-R2CT-ND; Supplier 3: Digi-Key; Supplier Part Number 3: AD5667BCPZ-R2DKR-ND; Supplier 4: Mouser; Supplier Part Number 4: 584-AD5667BCPZ-R2; Packing: Reel; RoHS: Y; Mounting Technology: Surface Mount; ComponentLink1Description: Manufacturer URL; ComponentLink1URL: http://www.analog.com/en/index.html; ComponentLink2Description: Datasheet; ComponentLink2URL: http://www.analog.com/static/imported-files/data_sheets/AD5627R_5647R_5667R_5627_5667.pdf; ComponentLink3Description: Package Specification; ComponentLink3URL: http://www.analog.com/static/imported-files/packages/CP_10_9.pdf; ComponentLink4Description: Product URL; ComponentLink4URL: http://www.analog.com/en/digital-to-analog-converters/da-converters/ad5667/products/product.html
footprint CP-10-9_N (SON, 10-Leads, Body 3x3mm, Pitch 0.5mm, Thermal Pad 2.35x1.6mm, IPC Medium Density)
footprint CP-10-9_L (SON, 10-Leads, Body 3x3mm, Pitch 0.5mm, Thermal Pad 2.35x1.6mm, IPC High Density)
footprint CP-10-9_M (SON, 10-Leads, Body 3x3mm, Pitch 0.5mm, Thermal Pad 2.35x1.6mm, IPC Low Density)
pins: 1 VOUTA (hiz) "Analog Output Voltage from DAC A. The output amplifier has rail-to-rail operation.", 2 VOUTB (hiz) "Analog Output Voltage from DAC B. The output amplifier has rail-to-rail operation.", 3 GND (power) "Ground reference point for all circuitry on the part.", 4 ~{LDAC} (in) "Pulsing this pin low allows any or all DAC registers to be updated if the inputs have new data. This allows simultaneous updates of all DAC outputs. Alternatively, this pin can be tied permanently low.", 5 ~{CLR} (in) "Asynchronous Clear Input. The C\L\R\ input is falling-edge sensitive. While C\L\R\ is low, all LDAC pulses are ignored. When C\L\R\ is activated, zero scale is loaded to all input and DAC registers. This clears the output to (See Datasheet)", 6 ADDR (in) "Three-State Address Input. Sets the two least significant bits (Bit A1, Bit A0) of the 7-bit slave address.", 7 SCL (in) "Serial Clock Line. This is used in conjunction with the SDA line to clock data into or out of the 24-bit input register.", 8 SDA (io) "Serial Data Line. This is used in conjunction with the SCL line to clock data into or out of the 24-bit input register. It is a bidirectional, open-drain data line that should be pulled to the supply with an external pull-up (See Datasheet)", 9 VDD (power) "Power Supply Input. These parts can be operated from 2.7 V to 5.5 V, and the supply should be decoupled with a 10 µF capacitor in parallel with a 0.1 µF capacitor to GND.", 10 VREFIN (in) "The AD5667R have a common pin for reference input and reference output. When using the internal reference, this is the reference output pin. When using an external reference, this is the reference input pin. The default for (See Datasheet)", 11 EP "Exposed pad."

## AD5667BCPZ-REEL7
designator U?
Dual 16-Bit nanoDAC with I2C Interface, -40 to +105 degC, CP-10-9, Pb-Free, Reel; Generic Part Number: AD5667; Manufacturer: Analog Devices; PartNumber: AD5667BCPZ-REEL7; # DAC Outputs: 2; Max V+: 5.5V; Op Pwr Diss: 5.75mW; Resolution (Bits): 16; Settling Time: 4µs; Single Supply: Yes; DatasheetVersion: Rev.0; PackageVersion: 02-27-2012-B; PackageReference: CP-10-9; PackageDescription: 10-Lead Lead Frame Chip Scale Package [LFCSP_WD] 3 x 3 mm Body, Very Very Thin, Dual Lead; Supplier 1: Digi-Key; Supplier Part Number 1: AD5667BCPZ-REEL7TR-ND; Supplier 2: Digi-Key; Supplier Part Number 2: AD5667BCPZ-REEL7CT-ND; Supplier 3: Digi-Key; Supplier Part Number 3: AD5667BCPZ-REEL7DKR-ND; Supplier 4: Mouser; Supplier Part Number 4: 584-AD5667BCPZ-R7; Packing: Reel; RoHS: Y; Mounting Technology: Surface Mount; ComponentLink1Description: Manufacturer URL; ComponentLink1URL: http://www.analog.com/en/index.html; ComponentLink2Description: Datasheet; ComponentLink2URL: http://www.analog.com/static/imported-files/data_sheets/AD5627R_5647R_5667R_5627_5667.pdf; ComponentLink3Description: Package Specification; ComponentLink3URL: http://www.analog.com/static/imported-files/packages/CP_10_9.pdf; ComponentLink4Description: Product URL; ComponentLink4URL: http://www.analog.com/en/digital-to-analog-converters/da-converters/ad5667/products/product.html
footprint CP-10-9_N (SON, 10-Leads, Body 3x3mm, Pitch 0.5mm, Thermal Pad 2.35x1.6mm, IPC Medium Density)
footprint CP-10-9_L (SON, 10-Leads, Body 3x3mm, Pitch 0.5mm, Thermal Pad 2.35x1.6mm, IPC High Density)
footprint CP-10-9_M (SON, 10-Leads, Body 3x3mm, Pitch 0.5mm, Thermal Pad 2.35x1.6mm, IPC Low Density)
pins: 1 VOUTA (hiz) "Analog Output Voltage from DAC A. The output amplifier has rail-to-rail operation.", 2 VOUTB (hiz) "Analog Output Voltage from DAC B. The output amplifier has rail-to-rail operation.", 3 GND (power) "Ground reference point for all circuitry on the part.", 4 ~{LDAC} (in) "Pulsing this pin low allows any or all DAC registers to be updated if the inputs have new data. This allows simultaneous updates of all DAC outputs. Alternatively, this pin can be tied permanently low.", 5 ~{CLR} (in) "Asynchronous Clear Input. The C\L\R\ input is falling-edge sensitive. While C\L\R\ is low, all LDAC pulses are ignored. When C\L\R\ is activated, zero scale is loaded to all input and DAC registers. This clears the output to (See Datasheet)", 6 ADDR (in) "Three-State Address Input. Sets the two least significant bits (Bit A1, Bit A0) of the 7-bit slave address.", 7 SCL (in) "Serial Clock Line. This is used in conjunction with the SDA line to clock data into or out of the 24-bit input register.", 8 SDA (io) "Serial Data Line. This is used in conjunction with the SCL line to clock data into or out of the 24-bit input register. It is a bidirectional, open-drain data line that should be pulled to the supply with an external pull-up (See Datasheet)", 9 VDD (power) "Power Supply Input. These parts can be operated from 2.7 V to 5.5 V, and the supply should be decoupled with a 10 µF capacitor in parallel with a 0.1 µF capacitor to GND.", 10 VREFIN (in) "The AD5667R have a common pin for reference input and reference output. When using the internal reference, this is the reference output pin. When using an external reference, this is the reference input pin. The default for (See Datasheet)", 11 EP "Exposed pad."

## AD5667BRMZ
designator U?
Dual 16-Bit nanoDAC with I2C Interface, -40 to +105 degC, RM-10, Pb-Free, Tube; Generic Part Number: AD5667; Manufacturer: Analog Devices; PartNumber: AD5667BRMZ; # DAC Outputs: 2; Max V+: 5.5V; Op Pwr Diss: 5.75mW; Resolution (Bits): 16; Settling Time: 4µs; Single Supply: Yes; DatasheetVersion: Rev.0; PackageVersion: May-2005; PackageReference: RM-10; PackageDescription: 10-Lead Mini Small Outline Package [MSOP]; Supplier 1: Digi-Key; Supplier Part Number 1: AD5667BRMZ-ND; Supplier 2: Farnell; Supplier Part Number 2: 1498715; Supplier 3: Newark; Supplier Part Number 3: 30M0520; Supplier 4: Mouser; Supplier Part Number 4: 584-AD5667BRMZ; Packing: Tube; RoHS: Y; Mounting Technology: Surface Mount; ComponentLink1Description: Manufacturer URL; ComponentLink1URL: http://www.analog.com/en/index.html; ComponentLink2Description: Datasheet; ComponentLink2URL: http://www.analog.com/static/imported-files/data_sheets/AD5627R_5647R_5667R_5627_5667.pdf; ComponentLink3Description: Package Specification; ComponentLink3URL: http://www.analog.com/static/imported-files/packages/PKG_PDF/MSOP%28RM%29/RM_10.pdf; ComponentLink4Description: Product URL; ComponentLink4URL: http://www.analog.com/en/digital-to-analog-converters/da-converters/ad5667/products/product.html
footprint RM-10_N (TSSOP, 10-Leads, Body 3x3mm, Pitch 0.5mm, IPC Medium Density)
footprint RM-10_L (TSSOP, 10-Leads, Body 3x3mm, Pitch 0.5mm, IPC High Density)
footprint RM-10_M (TSSOP, 10-Leads, Body 3x3mm, Pitch 0.5mm, IPC Low Density)
pins: 1 VOUTA (hiz) "Analog Output Voltage from DAC A. The output amplifier has rail-to-rail operation.", 2 VOUTB (hiz) "Analog Output Voltage from DAC B. The output amplifier has rail-to-rail operation.", 3 GND (power) "Ground reference point for all circuitry on the part.", 4 ~{LDAC} (in) "Pulsing this pin low allows any or all DAC registers to be updated if the inputs have new data. This allows simultaneous updates of all DAC outputs. Alternatively, this pin can be tied permanently low.", 5 ~{CLR} (in) "Asynchronous Clear Input. The C\L\R\ input is falling-edge sensitive. While C\L\R\ is low, all LDAC pulses are ignored. When C\L\R\ is activated, zero scale is loaded to all input and DAC registers. This clears the output to (See Datasheet)", 6 ADDR (in) "Three-State Address Input. Sets the two least significant bits (Bit A1, Bit A0) of the 7-bit slave address.", 7 SCL (in) "Serial Clock Line. This is used in conjunction with the SDA line to clock data into or out of the 24-bit input register.", 8 SDA (io) "Serial Data Line. This is used in conjunction with the SCL line to clock data into or out of the 24-bit input register. It is a bidirectional, open-drain data line that should be pulled to the supply with an external pull-up (See Datasheet)", 9 VDD (power) "Power Supply Input. These parts can be operated from 2.7 V to 5.5 V, and the supply should be decoupled with a 10 µF capacitor in parallel with a 0.1 µF capacitor to GND.", 10 VREFIN (in) "The AD5667R have a common pin for reference input and reference output. When using the internal reference, this is the reference output pin. When using an external reference, this is the reference input pin. The default for (See Datasheet)"

## AD5667BRMZ-REEL7
designator U?
Dual 16-Bit nanoDAC with I2C Interface, -40 to +105 degC, RM-10, Pb-Free, Reel; Generic Part Number: AD5667; Manufacturer: Analog Devices; PartNumber: AD5667BRMZ-REEL7; # DAC Outputs: 2; Max V+: 5.5V; Op Pwr Diss: 5.75mW; Resolution (Bits): 16; Settling Time: 4µs; Single Supply: Yes; DatasheetVersion: Rev.0; PackageVersion: May-2005; PackageReference: RM-10; PackageDescription: 10-Lead Mini Small Outline Package [MSOP]; Supplier 1: Digi-Key; Supplier Part Number 1: AD5667BRMZ-REEL7TR-ND; Supplier 2: Digi-Key; Supplier Part Number 2: AD5667BRMZ-REEL7CT-ND; Supplier 3: Digi-Key; Supplier Part Number 3: AD5667BRMZ-REEL7DKR-ND; Supplier 4: Mouser; Supplier Part Number 4: 584-AD5667BRMZ-R7; Packing: Reel; RoHS: Y; Mounting Technology: Surface Mount; ComponentLink1Description: Manufacturer URL; ComponentLink1URL: http://www.analog.com/en/index.html; ComponentLink2Description: Datasheet; ComponentLink2URL: http://www.analog.com/static/imported-files/data_sheets/AD5627R_5647R_5667R_5627_5667.pdf; ComponentLink3Description: Package Specification; ComponentLink3URL: http://www.analog.com/static/imported-files/packages/PKG_PDF/MSOP%28RM%29/RM_10.pdf; ComponentLink4Description: Product URL; ComponentLink4URL: http://www.analog.com/en/digital-to-analog-converters/da-converters/ad5667/products/product.html
footprint RM-10_N (TSSOP, 10-Leads, Body 3x3mm, Pitch 0.5mm, IPC Medium Density)
footprint RM-10_L (TSSOP, 10-Leads, Body 3x3mm, Pitch 0.5mm, IPC High Density)
footprint RM-10_M (TSSOP, 10-Leads, Body 3x3mm, Pitch 0.5mm, IPC Low Density)
pins: 1 VOUTA (hiz) "Analog Output Voltage from DAC A. The output amplifier has rail-to-rail operation.", 2 VOUTB (hiz) "Analog Output Voltage from DAC B. The output amplifier has rail-to-rail operation.", 3 GND (power) "Ground reference point for all circuitry on the part.", 4 ~{LDAC} (in) "Pulsing this pin low allows any or all DAC registers to be updated if the inputs have new data. This allows simultaneous updates of all DAC outputs. Alternatively, this pin can be tied permanently low.", 5 ~{CLR} (in) "Asynchronous Clear Input. The C\L\R\ input is falling-edge sensitive. While C\L\R\ is low, all LDAC pulses are ignored. When C\L\R\ is activated, zero scale is loaded to all input and DAC registers. This clears the output to (See Datasheet)", 6 ADDR (in) "Three-State Address Input. Sets the two least significant bits (Bit A1, Bit A0) of the 7-bit slave address.", 7 SCL (in) "Serial Clock Line. This is used in conjunction with the SDA line to clock data into or out of the 24-bit input register.", 8 SDA (io) "Serial Data Line. This is used in conjunction with the SCL line to clock data into or out of the 24-bit input register. It is a bidirectional, open-drain data line that should be pulled to the supply with an external pull-up (See Datasheet)", 9 VDD (power) "Power Supply Input. These parts can be operated from 2.7 V to 5.5 V, and the supply should be decoupled with a 10 µF capacitor in parallel with a 0.1 µF capacitor to GND.", 10 VREFIN (in) "The AD5667R have a common pin for reference input and reference output. When using the internal reference, this is the reference output pin. When using an external reference, this is the reference input pin. The default for (See Datasheet)"